# EAGLE library part TH_LIBRARIES_RPACK-BUSSED-9 (library easy_bee_counter)
used in easy bee 10pins, 9 resistors, common buss Bourns https://www.mouser.com/ProductDetail/Bourns/4610X-101-220LF?qs=sGAEpiMZZMvrmc6UYKmaNVMVEQDzqD4WvYds4mFxwCY%3D Xicon https://www.mouser.com/ProductDetail/Xicon/266-22-RC?qs=sGAEpiMZZMvrmc6UYKmaNXFefT4dxyTCwtpTxTI0yoo%3D
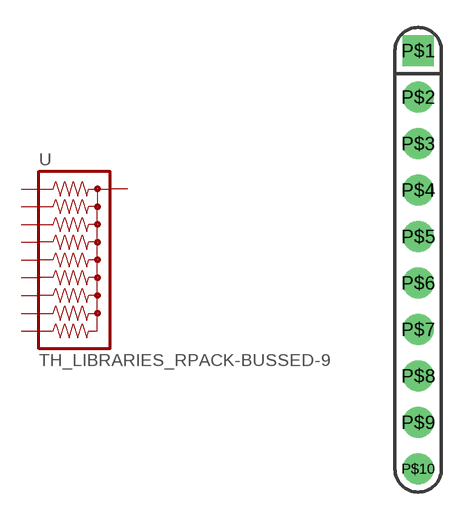
[diagram p4: symbol with the pads of TH_LIBRARIES_RPACK-SIP-PTH-9; footprint TH_LIBRARIES_RPACK-SIP-PTH-9]

Designator prefix -

## TH_LIBRARIES_RPACK-BUSSED-9  [TH_LIBRARIES_RPACK-SIP-PTH-9]
P$1  1  pas
P$2  2  pas
P$3  3  pas
P$4  4  pas
P$5  5  pas
P$6  6  pas
P$7  7  pas
P$8  8  pas
P$9  9  pas
P$10  10  pas

## Footprint TH_LIBRARIES_RPACK-SIP-PTH-9 (pad centres in mm)
drill 0.8 pad 1.676 square: P$1 0,11.43
drill 0.8 pad 1.676: P$2 0,8.89; P$3 0,6.35; P$4 0,3.81; P$5 0,1.27; P$6 0,-1.27; P$7 0,-3.81; P$8 0,-6.35; P$9 0,-8.89; P$10 0,-11.43